# EAGLE library part CON_02X07 (library PP_Connectors)
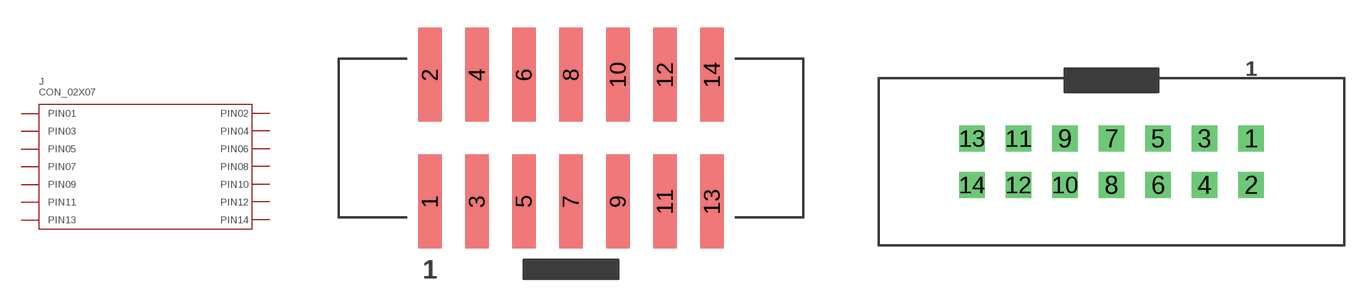
[diagram p15: symbol with the pads of D2514-6V0C-AR-WD; footprints D2514-6V0C-AR-WD, 5103308-2]

Designator prefix J

## CON_02X07_D2514-6V0C-AR-WD (POPULATE: 1)  [D2514-6V0C-AR-WD]
1  PIN1
2  PIN2
3  PIN3
4  PIN4
5  PIN5
6  PIN6
7  PIN7
8  PIN8
9  PIN9
10  PIN10
11  PIN11
12  PIN12
13  PIN13
14  PIN14

## CON_02X07_5103308-2 (POPULATE: 1)  [5103308-2]
Pads as for D2514-6V0C-AR-WD

## Footprint D2514-6V0C-AR-WD (pad centres in mm)
smd 1.27 x 5.08: 1 -7.62,-3.429; 2 -7.62,3.429; 3 -5.08,-3.429; 4 -5.08,3.429; 5 -2.54,-3.429; 6 -2.54,3.429; 7 0,-3.429; 8 0,3.429; 9 2.54,-3.429; 10 2.54,3.429; 11 5.08,-3.429; 12 5.08,3.429; 13 7.62,-3.429; 14 7.62,3.429

## Footprint 5103308-2 (pad centres in mm)
drill 0.9 square: 1 7.62,1.27; 2 7.62,-1.27; 3 5.08,1.27; 4 5.08,-1.27; 5 2.54,1.27; 6 2.54,-1.27; 7 0,1.27; 8 0,-1.27; 9 -2.54,1.27; 10 -2.54,-1.27; 11 -5.08,1.27; 12 -5.08,-1.27; 13 -7.62,1.27; 14 -7.62,-1.27